# Altium integrated library Linear Technology Power Management Switching Regulator LTC1174-LTC3901.IntLib: 2647 symbols (part 219 of 364)
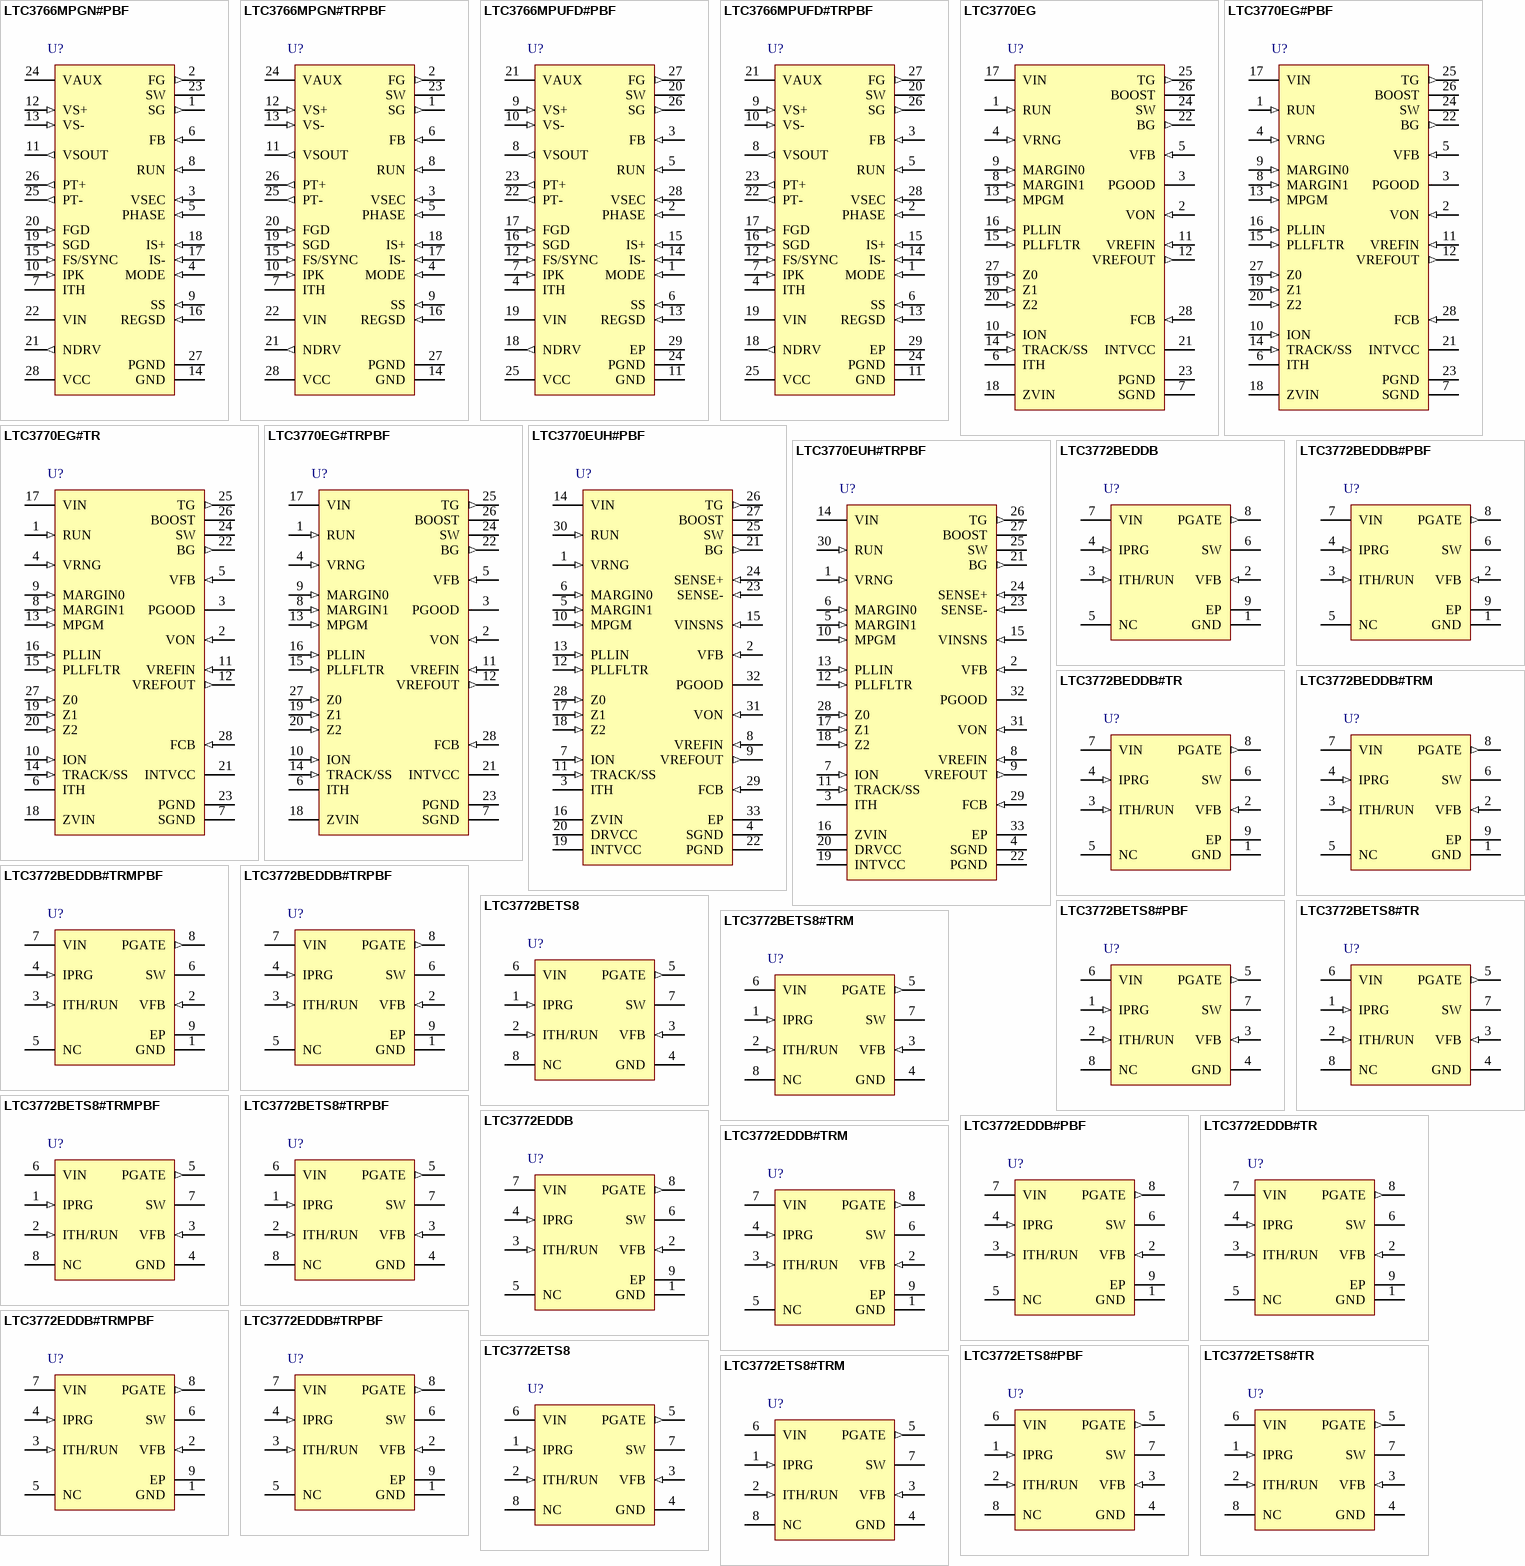
[diagram p328: symbols LTC3766MPGN#PBF to LTC3772ETS8#TRM]

## LTC3770EG
designator U?
Fast No Rsense Step-Down Synchronous Controller with Margining, Tracking and PLL, 28-pin SOP (G-28), -40 to 85 degC; Manufacturer: Linear Technology; PartNumber: LTC3770EG; Frequency Sync Range: Up to 1MHz; Number of Outputs: 1; DatasheetVersion: Rev. C; PackageVersion: Jun-10; PackageReference: G-28; PackageDescription: 28-Pin Plastic SSOP, Body 10.2 x 5.3 mm, Pitch 0.65 mm; RoHS: FALSE; Mounting Technology: Surface Mount; ComponentLink1Description: Manufacturer URL; ComponentLink1URL: http://www.linear.com/; ComponentLink2Description: Datasheet; ComponentLink2URL: http://cds.linear.com/docs/en/datasheet/3770fc.pdf; ComponentLink3Description: Package Specification; ComponentLink3URL: http://cds.linear.com/docs/en/packaging/SSOP_28_05-08-1640.pdf
footprint LT-G-28_N (SOP, 28-Leads, Body 10.2x5.3mm, Pitch 0.65mm, IPC Medium Density)
footprint LT-G-28_L (SOP, 28-Leads, Body 10.2x5.3mm, Pitch 0.65mm, IPC High Density)
footprint LT-G-28_M (SOP, 28-Leads, Body 10.2x5.3mm, Pitch 0.65mm, IPC Low Density)
pins: 1 RUN (in) "Run Control Input. A voltage above 1.5V turns on the IC. Forcing this pin below 1.5V shuts down the device.", 2 VON (in) "On-Time Voltage Input. Connecting this pin to the output voltage makes the on-time proportional to VOUT. The comparator input defaults to 0.6V when the pin is grounded and defaults to 4.8V when the pin is tied to INTVCC.", 3 PGOOD (oc) "Power Good Output. Open drain logic output that is pulled to ground when the output voltage is not within +/-10% of the regulation point, after the internal 25us power bad mask timer expires.", 4 VRNG (in) "Sense Voltage Range Input. The voltage at this pin is ten times the nominal sense voltage at maximum output current and can be set from 0.5V to 2V by a resistive divider from INTVCC. The nominal sense voltage defaults to (See Datasheet)", 5 VFB (in) "Error Amplifier Feedback Input. This pin connects the error amplifier input to an external resistive divider from VOUT.", 6 ITH "Current Control Threshold and Error Amplifier Compensation Point. The current comparator threshold increases with this control voltage. The voltage ranges from 0V to 2.4V with 0.75V corresponding to zero sense voltage (zero (See Datasheet)", 7 SGND (power) "Signal Ground. All small-signal components and compensation components should connect to this ground, which in turn connects to PGND at one point.", 8 MARGIN1 (in) "The MSB Logic Input for the Margining Function. Together with the MARGIN0 pin determines whether the IC is in margin high, margin low, or no margin state. This pin has a 50k internal pull-down resistor.", 9 MARGIN0 (in) "The LSB Logic Input for the Margining Function. Together with the MARGIN1 pin determines whether the IC is in margin high, margin low, or no margin state. This pin has a 50k internal pull-down resistor.", 10 ION (in) "On-Time Current Input. Tie a resistor from this pin to ground to set the one-shot timer current and thereby set the switching frequency.", 11 VREFIN (in) "Error Amplifier Reference Input. The voltage at this pin must be greater than 0.5V and less than 1V.", 12 VREFOUT (out) "Buffered Internal 0.6V Reference Output. The maximum current sinking limit is 50uA at this pin. Do not put a filter capacitor larger than 100pF on this pin.", 13 MPGM (in) "Programmable Margining Input. A resistor from this pin to ground sets the margining current. This current, together with the resistor between the VREFOUT and VREFIN pins, determines the margining voltage offset.", 14 TRACK/SS (in) "Output Voltage Tracking and Soft-Start Input. When the IC is confi gured to be the master of two outputs, a capacitor to ground at this pin sets the ramp rate for the output voltage. When the IC is configured to be the slave (See Datasheet)", 15 PLLFLTR (in) "The Phase-Locked Loop’s Lowpass Filter is Tied to This Pin. The voltage at this pin defaults to 1.18V when the IC is not synchronized with an external clock at the PLLIN pin.", 16 PLLIN (in) "External Synchronization Input to Phase Detector. This pin is internally terminated to SGND with a 50k resistor.", 17 VIN (power) "Main Input Supply. Decouple this pin to PGND with a capacitor (0.1uF to 1uF).", 18 ZVIN (power) "Post-Package Zener-Trim Voltage Input. Under normal conditions this pin should always be connected to INTVCC.", 19 Z1 (in) "Post-Package Zener-Trim Control. This pin is a multifunctional pin used in production for post-package trimming and tracking. Ground this pin under normal soft-start operation. Connecting this pin to INTVCC will turn off the (See Datasheet)", 20 Z2 (in) "Post-Package Zener-Trim Control. This pin is used in production for Post-Package trimming. Ground this pin or tie to INTVCC under normal operation.", 21 INTVCC (power) "Internal 5V Regulator Output. The control circuits are powered from this voltage. Decouple this pin to PGND with a minimum of 4.7uF low ESR tantalum or ceramic capacitor.", 22 BG (out) "Bottom Gate Driver Output. This pin drives the gate of the bottom N-channel MOSFET between ground and INTVCC.", 23 PGND (power) "Power Ground. Connect this pin closely to the source of the bottom N-channel MOSFET, the (-) terminal of CVCC and the (-) terminal of CIN.", 24 SW "Switch Node. The (-) terminal of the boot-strap capacitor CB connects here. This pin swings from a diode voltage drop below ground up to VIN.", 25 TG (out) "Top Gate Drive Output. This pin drives the top N-channel MOSFET with a voltage swing equal to INTVCC, superimposed on the switch node voltage SW.", 26 BOOST "Boosted Floating Driver Supply. The (+) terminal of the boot-strap capacitor CB connects here. This pin swings from a diode voltage drop below INTVCC up to VIN + INTVCC.", 27 Z0 (in) "Dead Time Control Input. Applying a DC voltage will vary the dead time between TG-Low and BG-High transition. Do not force a voltage higher than 5V on this pin.", 28 FCB (in) "Forced Continuous Input. Connect this pin to SGND to forced continuous synchronization operation at low load, to INTVCC to enable discontinuous mode operation at low load or to a resistive divider from a secondary output (See Datasheet)"